# Altium footprint library pcblib_by_wjy.PcbLib: 113 footprints (part 6 of 8)
Each footprint in its own frame and in the unit in brackets; x right, y up, seen from the top. Pads: shape width x height; smd on the part's side, far side on the other; paste and mask are expansions set on the pad; w line width, h text height; cw(c..) or ccw(c..) is an arc to the next point about the centre after c.
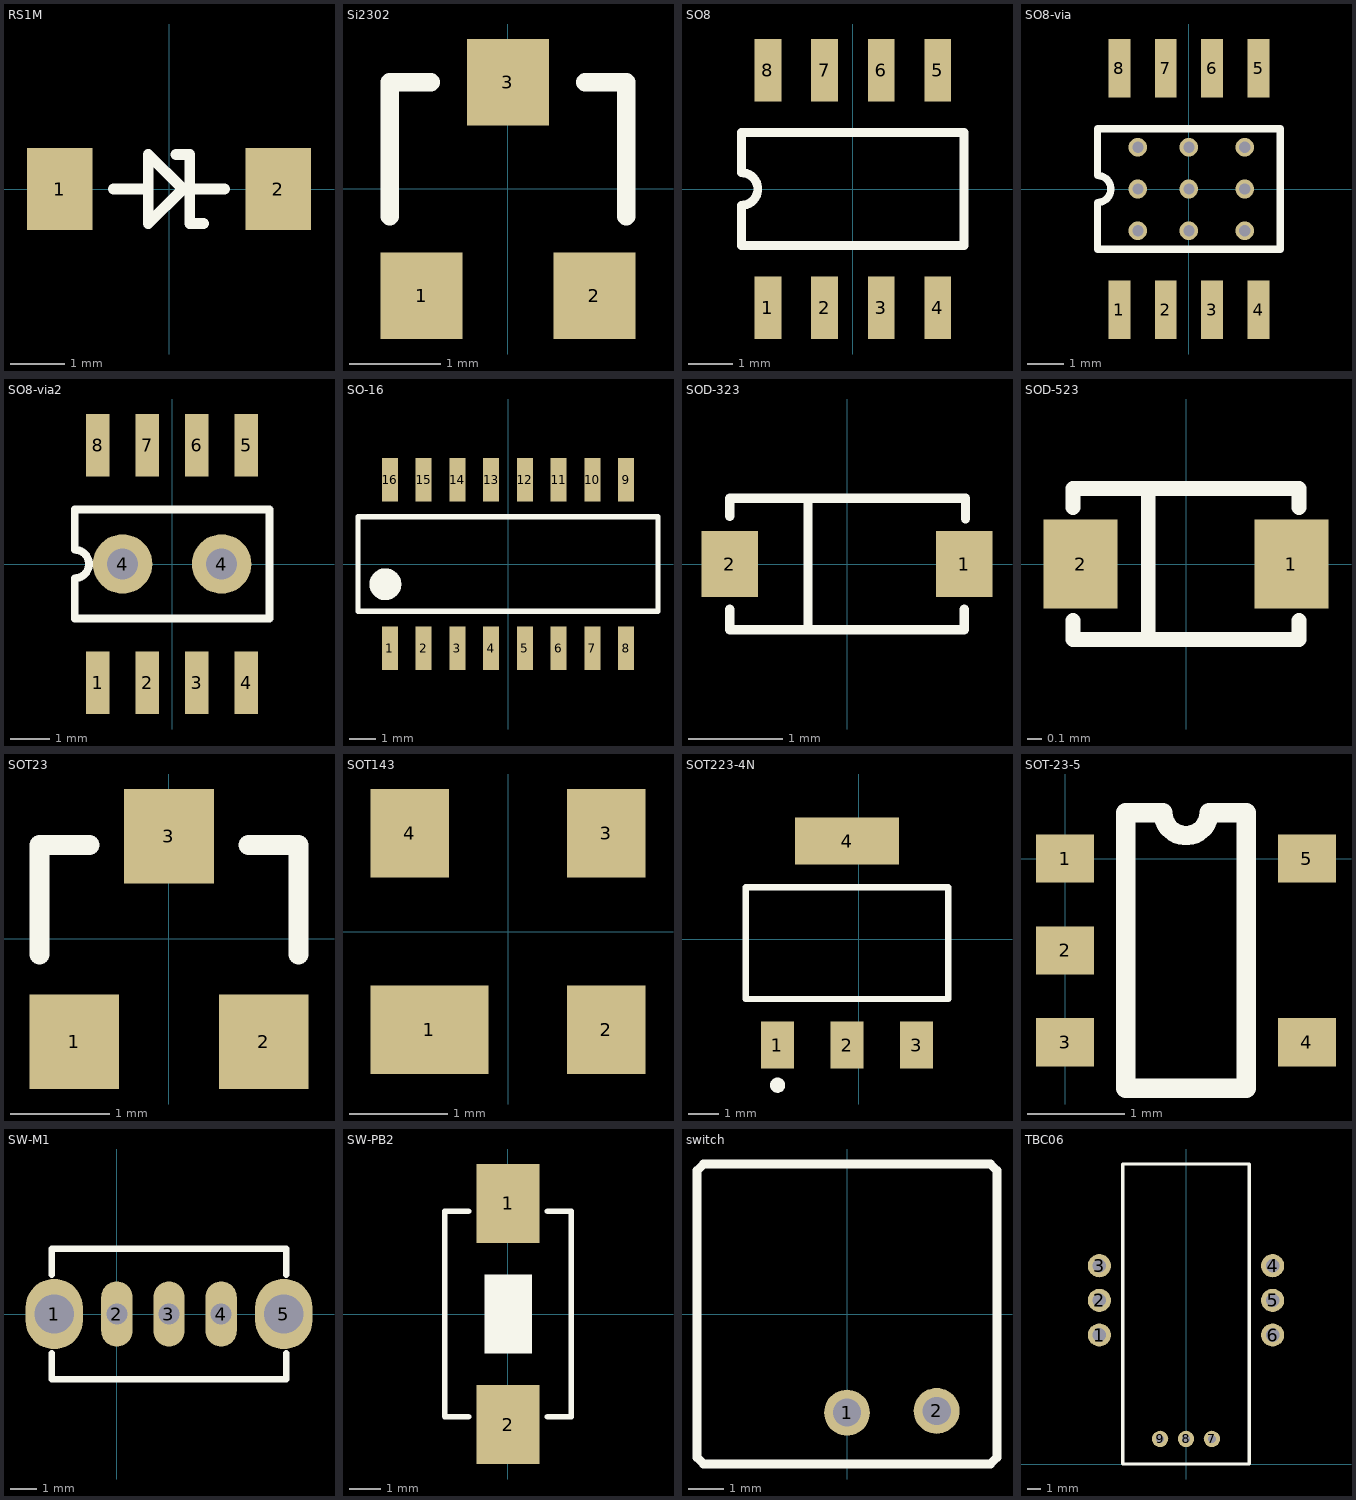
[diagram p5: the footprints below, top view; thin cyan lines are the x and y axes]

## RS1M [mm]
pads (2):
  rect 1.2x1.5 smd: 1(-2,0) 2(2,0)
Top Overlay:
  lines w0.2: -1.016,0 -0.381,0 ; 0.127,0.635 0.381,0.635 0.381,-0.635 0.635,-0.635 ; 0.381,0 1.016,0 ; -0.381,0 -0.381,0.635 0.254,0 -0.381,-0.635 -0.381,0

## Si2302 [mm] "SOT-23; 3 Leads; Body 3.1 x 2.5 mm, inc. leads (LxW max), Alternate Lead Configuration"
height 1.1
pads (3):
  rect 0.9x0.95 smd: 1(-0.95,-1.175) 2(0.95,-1.175) 3(0,1.175)
Top Overlay:
  lines w0.2: -1.3,-0.3 -1.3,1.175 -0.85,1.175 ; 0.85,1.175 1.3,1.175 1.3,-0.3

## SO8 [mm] "Small Outline; 8 Leads; Body Width 3.9 mm; Pitch 1.27 mm"
height 1.75
pads (8):
  rect 0.6x1.4 smd: 1(-1.905,-2.667) 2(-0.635,-2.667) 3(0.635,-2.667) 4(1.905,-2.667) 5(1.905,2.667) 6(0.635,2.667) 7(-0.635,2.667) 8(-1.905,2.667)
Top Overlay:
  lines w0.2: -2.5,-1.27 2.5,-1.27 2.5,1.27 -2.5,1.27 -2.5,0.367 cw(c-2.5,0) -2.5,-0.367 -2.5,-1.27

## SO8-via [mm] "Small Outline; 8 Leads; Body Width 3.9 mm; Pitch 1.27 mm"
height 1.75
pads (8):
  rect 0.6x1.6 smd: 1(-1.905,-3.302) 2(-0.635,-3.302) 3(0.635,-3.302) 4(1.905,-3.302) 5(1.905,3.302) 6(0.635,3.302) 7(-0.635,3.302) 8(-1.905,3.302)
via -1.397,1.143 diameter 0.508 hole 0.305
via 0,1.143 diameter 0.508 hole 0.305
via -1.397,0 diameter 0.508 hole 0.305
via 0,0 diameter 0.508 hole 0.305
via 1.524,0 diameter 0.508 hole 0.305
via 1.524,1.143 diameter 0.508 hole 0.305
via -1.397,-1.143 diameter 0.508 hole 0.305
via 0,-1.143 diameter 0.508 hole 0.305
via 1.524,-1.143 diameter 0.508 hole 0.305
Top Overlay:
  lines w0.2: -2.5,-1.651 -2.5,-0.367 ccw(c-2.5,0) -2.5,0.367 -2.5,1.651 2.5,1.651 2.5,-1.651 -2.5,-1.651

## SO8-via2 [mm] "Small Outline; 8 Leads; Body Width 3.9 mm; Pitch 1.27 mm"
height 1.75
pads (10):
  rect 0.6x1.6 smd: 1(-1.905,-3.048) 2(-0.635,-3.048) 3(0.635,-3.048) 4(1.905,-3.048) 5(1.905,3.048) 6(0.635,3.048) 7(-0.635,3.048) 8(-1.905,3.048)
  round 1.524 hole 0.8: 4(-1.27,0) 4(1.27,0)
Top Overlay:
  lines w0.2: -2.5,-1.397 -2.5,-0.367 ccw(c-2.5,0) -2.5,0.367 -2.5,1.397 2.5,1.397 2.5,-1.397 -2.5,-1.397

## SO-16 [mm] "Small Outline; 16 Leads; Body Width 5.6 mm; Pitch 1.27 mm"
height 2.2
pads (16):
  rect 0.6x1.65 smd: 1(-4.445,-3.175) 2(-3.175,-3.175) 3(-1.905,-3.175) 4(-0.635,-3.175) 5(0.635,-3.175) 6(1.905,-3.175) 7(3.175,-3.175) 8(4.445,-3.175) 9(4.445,3.175) 10(3.175,3.175) 11(1.905,3.175) 12(0.635,3.175) 13(-0.635,3.175) 14(-1.905,3.175) 15(-3.175,3.175) 16(-4.445,3.175)
Top Overlay:
  circle w0.6: c-4.618,-0.762 r0.3
  lines w0.2: -5.65,-1.778 5.65,-1.778 5.65,1.778 -5.65,1.778 -5.65,-0.635 -5.65,-1.778

## SOD-323 [mm]
pads (2):
  rect 0.6x0.7 smd: 1(1.25,0) 2(-1.25,0)
Top Overlay:
  lines w0.1: -1.25,-0.483 -1.25,-0.7 1.25,-0.7 1.25,-0.483 ; -1.25,0.508 -1.25,0.7 1.25,0.7 1.265,0.7 1.265,0.483 ; -0.416,-0.66 -0.416,0.686

## SOD-523 [mm]
pads (2):
  rect 0.5x0.6 smd: 1(0.71,0) 2(-0.71,0)
Top Overlay:
  lines w0.1: -0.762,-0.381 -0.762,-0.508 0.254,-0.508 ; -0.762,0.381 -0.762,0.508 0.254,0.508 ; 0.762,-0.381 0.762,-0.508 -0.254,-0.508 -0.254,0.508 0.762,0.508 0.762,0.381

## SOT23 [mm] "SOT-23; 3 Leads; Body 3.1 x 2.5 mm, inc. leads (LxW max), Alternate Lead Configuration"
height 1.1
pads (3):
  rect 0.9x0.95 smd: 1(-0.95,-1.032) 2(0.95,-1.032) 3(0,1.032)
Top Overlay:
  lines w0.2: -1.3,-0.157 -1.3,0.943 -0.8,0.943 ; 0.8,0.943 1.3,0.943 1.3,-0.157

## SOT143 [mm]
pads (4):
  rect 1.2x0.9 smd: 1(-0.8,-1)
  rect 0.8x0.9 smd: 2(1,-1) 3(1,1) 4(-1,1)

## SOT223-4N [mm]
pads (4):
  rect 1.1x1.55 smd: 1(-2.681,-3.502) 2(-0.381,-3.502) 3(1.919,-3.502)
  rect 3.45x1.55 smd: 4(-0.381,3.248)
Top Overlay:
  circle w0.25: c-2.681,-4.827 r0.125
  lines w0.2: -3.731,-1.977 -3.731,1.723 2.969,1.723 2.969,-1.977 -3.731,-1.977

## SOT-23-5 [mm]
pads (5):
  rect 0.6x0.5 smd: 1(0,0) 2(0,-0.95) 3(0,-1.9) 4(2.5,-1.9) 5(2.5,0)
Top Overlay:
  lines w0.2: 0.627,-2.375 1.873,-2.375 1.873,0.475 1.488,0.475 cw(c1.25,0.475) 1.013,0.475 0.627,0.475 0.627,-2.375
3D body: height 0.51, standoff 0, extent 0.25,-2.45 2.25,0.6

## SW-M1 [mm]
pads (5):
  oval 2.2x2.7 hole 1.5: 1(-2.391,0.018) 5(6.409,0.018)
  oval 1.2x2.5 hole 0.8: 2(0.009,0.018) 3(2.009,0.018) 4(4.009,0.018)
Top Overlay:
  lines w0.254: -2.491,-1.482 -2.491,-2.482 6.509,-2.482 6.509,-1.482 ; -2.491,1.518 -2.491,2.518 6.509,2.518 6.509,1.518

## SW-PB2 [mm]
pads (2):
  rect 2x2.5 smd: 1(0,3.5) 2(0,-3.5)
Top Overlay:
  region: -0.747,1.253 -0.747,-1.247 0.753,-1.247 0.753,1.253
  lines w0.178: -1.25,-3.25 -2,-3.246 -2,3.25 -1.25,3.25 ; 1.25,-3.25 2,-3.25 2,3.25 1.25,3.25

## switch [mm]
pads (2):
  round 1.3 hole 0.8: 1(0,-2.794) 2(2.54,-2.747)
Top Overlay:
  lines w0.254: -4.25,-4.064 -4.064,-4.25 4.064,-4.25 4.25,-4.064 4.25,4.064 4.064,4.25 -4.064,4.25 -4.25,4.064 -4.25,-4.064

## TBC06 [mm]
pads (9):
  round 1.7 hole 1: 1(-6.35,9.46) 2(-6.35,12) 3(-6.35,14.54) 4(6.35,14.54) 5(6.35,12) 6(6.35,9.46)
  round 1.2 hole 0.6: 7(1.9,1.84) 8(0,1.84) 9(-1.9,1.84)
Top Overlay:
  lines w0.254: -4.65,0 -4.65,22 4.65,22 4.65,0 -4.65,0